# EAGLE library part MAX1168 (library booz)
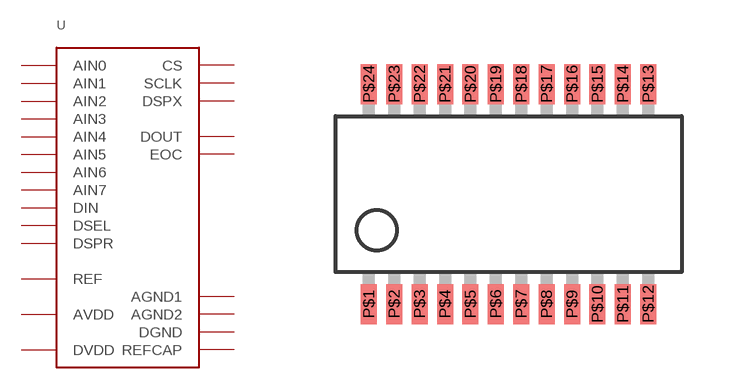
[diagram p2: symbol with the pads of QSOP24; footprint QSOP24]

Designator prefix -

## MAX1168  [QSOP24]
P$1  DSPR
P$2  DSEL
P$3  DOUT
P$4  SCLK
P$5  DIN
P$6  EOC
P$7  AIN0
P$8  AIN1
P$9  AIN2
P$10  AIN3
P$11  AIN4
P$12  AIN5
P$13  AIN6
P$14  AIN7
P$15  REF
P$16  REFCAP
P$17  AGND1
P$18  AGND2
P$19  AVDD
P$20  CS
P$21  DGND
P$22  DVDD
P$23  DSPX

## Footprint QSOP24 (pad centres in mm)
smd 0.4 x 1: P$1 -3.493,-2.75; P$2 -2.857,-2.75; P$3 -2.223,-2.75; P$4 -1.587,-2.75; P$5 -0.953,-2.75; P$6 -0.318,-2.75; P$7 0.318,-2.75; P$8 0.953,-2.75; P$9 1.587,-2.75; P$10 2.223,-2.75; P$11 2.857,-2.75; P$12 3.493,-2.75; P$13 3.493,2.75; P$14 2.857,2.75; P$15 2.223,2.75; P$16 1.587,2.75; P$17 0.953,2.75; P$18 0.318,2.75; P$19 -0.318,2.75; P$20 -0.953,2.75; P$21 -1.587,2.75; P$22 -2.223,2.75; P$23 -2.857,2.75; P$24 -3.493,2.75